# EAGLE library part A3967SLB (library twister)
ANALOG DEVICES
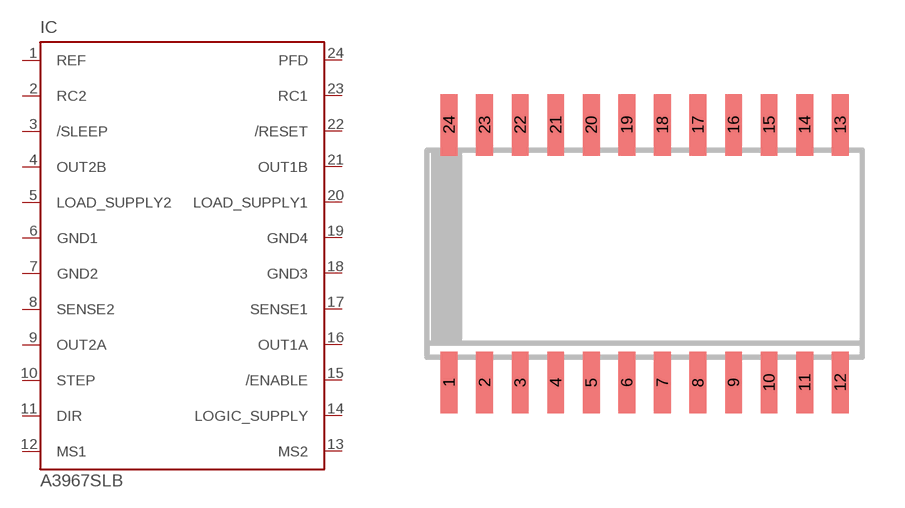
[diagram p0: symbol with the pads of SO24W; footprint SO24W]

Designator prefix IC

## A3967SLB  [SO24W]
1  REF  pwr
2  RC2  in
3  /SLEEP  pas
4  OUT2B  pas
5  LOAD_SUPPLY2  pas
6  GND1  pas
7  GND2  out
8  SENSE2  in
9  OUT2A  pwr
10  STEP  pwr
11  DIR  pwr
12  MS1  out
13  MS2  hiz
14  LOGIC_SUPPLY  hiz
15  /ENABLE  hiz
16  OUT1A  hiz
17  SENSE1  hiz
18  GND3  hiz
19  GND4  hiz
20  LOAD_SUPPLY1  hiz
21  OUT1B  hiz
22  /RESET  hiz
23  RC1  hiz
24  PFD  hiz

## Footprint SO24W (pad centres in mm)
SMALL OUTLINE INTEGRATED CIRCUIT wide body 7.5 mm/JEDEC MO-119AA Source: http://www.atmel.com/dyn/resources/prod_documents/doc4126.pdf
smd 0.6 x 2.2: 1 -6.985,-4.6; 2 -5.715,-4.6; 3 -4.445,-4.6; 4 -3.175,-4.6; 5 -1.905,-4.6; 6 -0.635,-4.6; 7 0.635,-4.6; 8 1.905,-4.6; 9 3.175,-4.6; 10 4.445,-4.6; 11 5.715,-4.6; 12 6.985,-4.6; 13 6.985,4.6; 14 5.715,4.6; 15 4.445,4.6; 16 3.175,4.6; 17 1.905,4.6; 18 0.635,4.6; 19 -0.635,4.6; 20 -1.905,4.6; 21 -3.175,4.6; 22 -4.445,4.6; 23 -5.715,4.6; 24 -6.985,4.6